# EAGLE library part EM4095 (library Elecrow_IC)
Read/Write analog front end for 125kHz RFID Basestation http://www.emmicroelectronic.com/webfiles/product/rfid/ds/EM4095_DS.pdf
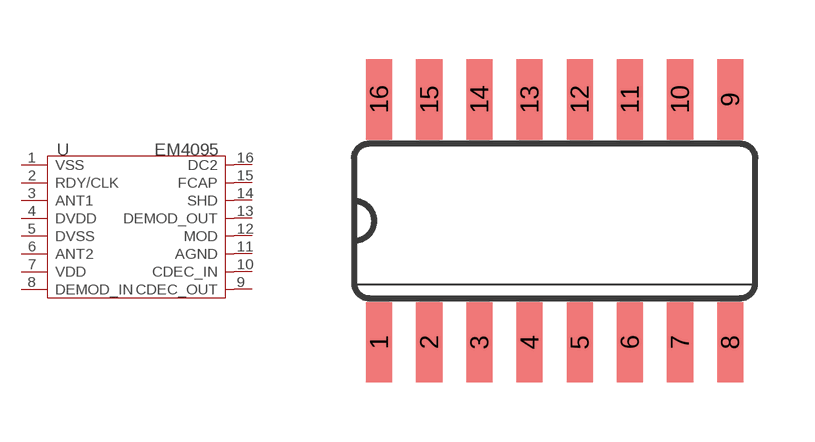
[diagram p35: symbol with the pads of SO16; footprint SO16]

Designator prefix U

## EM4095-SO16  [SO16]
1  VSS  sup
2  RDY/CLK  out
3  ANT1  out
4  DVDD  sup
5  DVSS  sup
6  ANT2  out
7  VDD  sup
8  DEMOD_IN
9  CDEC_OUT
10  CDEC_IN
11  AGND
12  MOD
13  DEMOD_OUT  out
14  SHD
15  FCAP
16  DC2

## Footprint SO16 (pad centres in mm)
Small Outline package 150 mil
smd 0.66 x 2.032: 1 -4.445,-3.073; 2 -3.175,-3.073; 3 -1.905,-3.073; 4 -0.635,-3.073; 5 0.635,-3.073; 6 1.905,-3.073; 7 3.175,-3.073; 8 4.445,-3.073; 9 4.445,3.073; 10 3.175,3.073; 11 1.905,3.073; 12 0.635,3.073; 13 -0.635,3.073; 14 -1.905,3.073; 15 -3.175,3.073; 16 -4.445,3.073